# EAGLE library part LINEAR,DIFF-AMP:INA145 (library QuantumOptics)
INA145, Burr-Brown/T.I., instrumentation amp, CMR >85dB, 2(V-) < Vcm < 2(V+)-2.
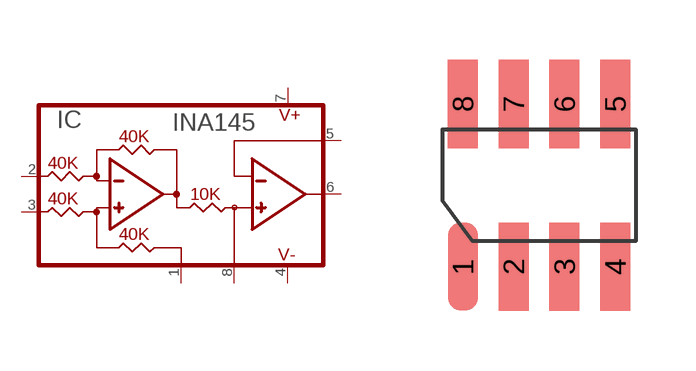
[diagram p20: symbol with the pads of SOIC-8; footprint SOIC-8]

Designator prefix IC

## LINEAR,DIFF-AMP:INA145UA  [SOIC-8]
1  IN-REF  in
2  IN-  in
3  IN+
4  V-  in
5  RG  in
6  OUT  out
7  V+  in
8  VOI

## Footprint SOIC-8 (pad centres in mm)
SOIC-8 (AKA SO-8), pads on 0.050" grid.
smd 0.75 x 2.2: 1 -1.27,-2.032; 2 0,-2.032; 3 1.27,-2.032; 4 2.54,-2.032; 5 2.54,2.032; 6 1.27,2.032; 7 0,2.032; 8 -1.27,2.032